# Altium schematic symbol library NET_TIE.Schlib: 1 symbol
Pins are listed as number, name and electrical type; pins without a type are passive.

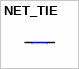
[diagram p0: symbol NET_TIE]

## NET_TIE
designator NT?, comment NET_TIE2  (value not drawn)  (net tie, no BOM)
Net-Tie for 2 Nets
pins: 1, 2